# EAGLE library part MC14512BCPG (library ON Semiconductor_By_element14_Batch_1)
8-Channel Data Selector
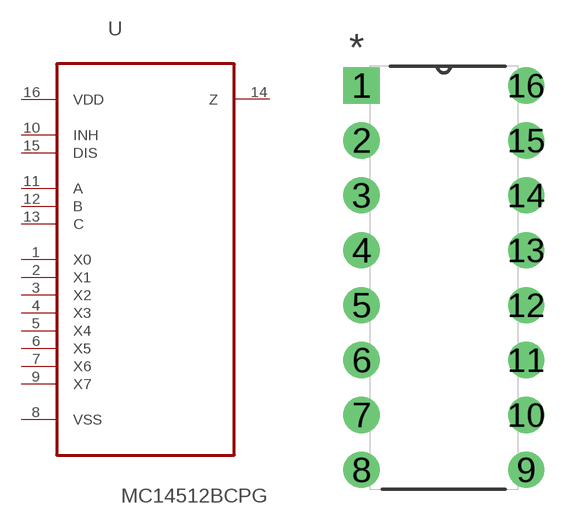
[diagram p278: symbol with the pads of DIP254P762X444-16; footprint DIP254P762X444-16]

Designator prefix U

## MC14512BCPG (MPN: MC14512BCPG; OC_FARNELL: 9665625; OC_NEWARK: 45J1105; PACKAGE: PDIP-16; SUPPLIER: ON SEMICONDUCTOR)  [DIP254P762X444-16]
1  X0  in
2  X1  in
3  X2  in
4  X3  in
5  X4  in
6  X5  in
7  X6  in
8  VSS  pas
9  X7  in
10  INH  in
11  A  in
12  B  in
13  C  in
14  Z  out
15  DIS  in
16  VDD  pwr

## Footprint DIP254P762X444-16 (pad centres in mm)
drill 1.118 square: 1 -7.62,17.78
drill 1.118: 2 -7.62,15.24; 3 -7.62,12.7; 4 -7.62,10.16; 5 -7.62,7.62; 6 -7.62,5.08; 7 -7.62,2.54; 8 -7.62,0; 9 0,0; 10 0,2.54; 11 0,5.08; 12 0,7.62; 13 0,10.16; 14 0,12.7; 15 0,15.24; 16 0,17.78